# EAGLE library part ATMEGA328PB-*-? (library Microchip-ATMEL328P(B))
AVR® 8-bit MICROCONTROLLER ATmega328PB <https://www.microchip.com/wwwproducts/en/ATmega328PB> In Production
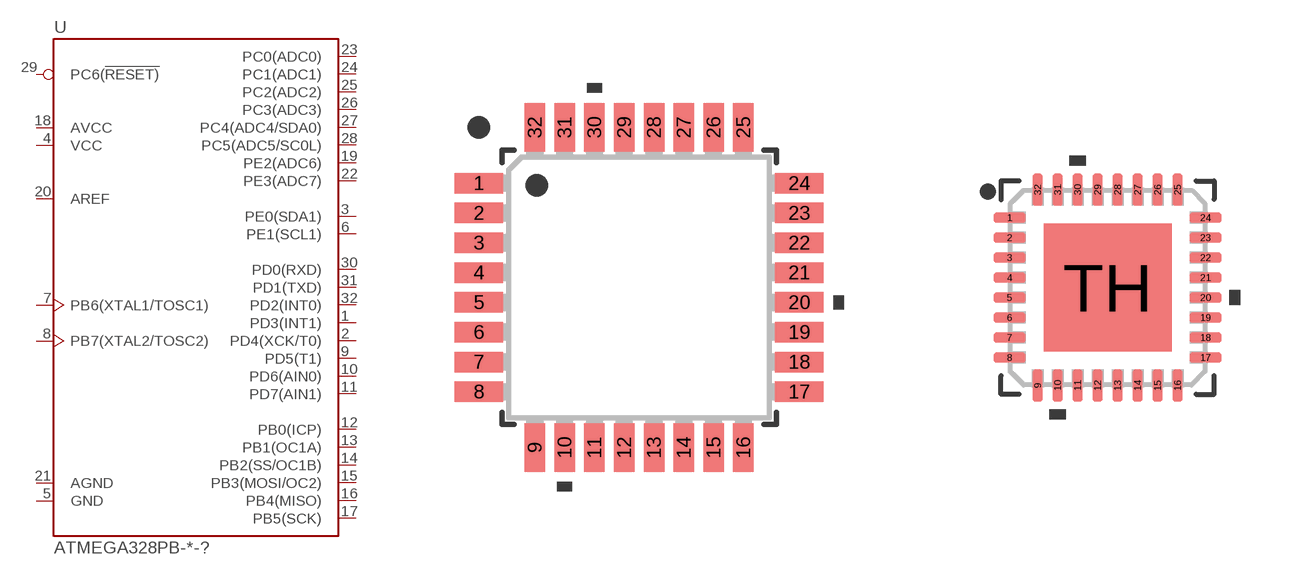
[diagram p1: symbol with the pads of TQFP32-08; footprints TQFP32-08, VQFN32-3.20_PAD]

Designator prefix U

## ATMEGA328PB-ABTVAO-PT (OP_TEMP: -55C to +105C; PACKAGE_MEDIA: TAPE/REEL; PACKAGE_TYPE: TQFP; VALUE: ATMEGA328PB-ABTVAO), ATMEGA328PB-AN-PT (OP_TEMP: -55C to +105C; PACKAGE_MEDIA: TRAY; PACKAGE_TYPE: TQFP; VALUE: ATMEGA328PB-AN), ATMEGA328PB-ANR-PT (OP_TEMP: -55C to +105C; PACKAGE_MEDIA: TAPE/REEL; PACKAGE_TYPE: TQFP; VALUE: ATMEGA328PB-ANR), ATMEGA328PB-AU-PT (OP_TEMP: -55C to +85C; PACKAGE_MEDIA: TRAY; PACKAGE_TYPE: TQFP; VALUE: ATMEGA328PB-AU), ATMEGA328PB-AUR-PT (OP_TEMP: -55C to +85C; PACKAGE_MEDIA: TAPE/REEL; PACKAGE_TYPE: TQFP; VALUE: ATMEGA328PB-AUR), ATMEGA328PB-AURVAO-PT (OP_TEMP: -55C to +85C; PACKAGE_MEDIA: TAPE/REEL; PACKAGE_TYPE: TQFP; VALUE: ATMEGA328PB-AURVAO), ATMEGA328PB-AUVAO-PT (OP_TEMP: -55C to +85C; PACKAGE_MEDIA: TRAY; PACKAGE_TYPE: TQFP; VALUE: ATMEGA328PB-AUVAO)  [TQFP32-08]
1  PD3(INT1)
2  PD4(XCK/T0)
3  PE0(SDA1)
4  VCC
5  GND
6  PE1(SCL1)
7  PB6(XTAL1/TOSC1)
8  PB7(XTAL2/TOSC2)
9  PD5(T1)
10  PD6(AIN0)
11  PD7(AIN1)
12  PB0(ICP)
13  PB1(OC1A)
14  PB2(SS/OC1B)
15  PB3(MOSI/OC2)
16  PB4(MISO)
17  PB5(SCK)
18  AVCC
19  PE2(ADC6)
20  AREF
21  AGND
22  PE3(ADC7)
23  PC0(ADC0)
24  PC1(ADC1)
25  PC2(ADC2)
26  PC3(ADC3)
27  PC4(ADC4/SDA0)
28  PC5(ADC5/SC0L)
29  PC6(!RESET)
30  PD0(RXD)
31  PD1(TXD)
32  PD2(INT0)

## ATMEGA328PB-MN-RXB (OP_TEMP: -55C to +105C; PACKAGE_MEDIA: TRAY; PACKAGE_TYPE: VQFN; VALUE: ATMEGA328PB-MN), ATMEGA328PB-MNR-RXB (OP_TEMP: -55C to +105C; PACKAGE_MEDIA: TAPE/REEL; PACKAGE_TYPE: VQFN; VALUE: ATMEGA328PB-MNR), ATMEGA328PB-MU-RXB (OP_TEMP: -55C to +85C; PACKAGE_MEDIA: TRAY; PACKAGE_TYPE: VQFN; VALUE: ATMEGA328PB-MU), ATMEGA328PB-MUR-RXB (OP_TEMP: -55C to +85C; PACKAGE_MEDIA: TAPE/REEL; PACKAGE_TYPE: VQFN; VALUE: ATMEGA328PB-MUR)  [VQFN32-3.20_PAD]
1  PD3(INT1)
2  PD4(XCK/T0)
3  PE0(SDA1)
4  VCC
5  GND
6  PE1(SCL1)
7  PB6(XTAL1/TOSC1)
8  PB7(XTAL2/TOSC2)
9  PD5(T1)
10  PD6(AIN0)
11  PD7(AIN1)
12  PB0(ICP)
13  PB1(OC1A)
14  PB2(SS/OC1B)
15  PB3(MOSI/OC2)
16  PB4(MISO)
17  PB5(SCK)
18  AVCC
19  PE2(ADC6)
20  AREF
21  AGND
22  PE3(ADC7)
23  PC0(ADC0)
24  PC1(ADC1)
25  PC2(ADC2)
26  PC3(ADC3)
27  PC4(ADC4/SDA0)
28  PC5(ADC5/SC0L)
29  PC6(!RESET)
30  PD0(RXD)
31  PD1(TXD)
32  PD2(INT0)
TH  GND

## ATMEGA328PB-MBTVAO-RTB (OP_TEMP: -55C to +85C; PACKAGE_MEDIA: TAPE/REEL; PACKAGE_TYPE: VQFN; VALUE: ATMEGA328PB-MBTVAO)  [VQFN32-3.70_PAD]
Pads as for VQFN32-3.20_PAD

## Footprint TQFP32-08 (pad centres in mm)
Thin Quad Flat Package (TQFP) 32 Leads - 0.80mm Pitch, 7x7mm
smd 1.3 x 0.55: 1 -4.3,2.8; 2 -4.3,2; 3 -4.3,1.2; 4 -4.3,0.4; 5 -4.3,-0.4; 6 -4.3,-1.2; 7 -4.3,-2; 8 -4.3,-2.8; 17 4.3,-2.8; 18 4.3,-2; 19 4.3,-1.2; 20 4.3,-0.4; 21 4.3,0.4; 22 4.3,1.2; 23 4.3,2; 24 4.3,2.8
smd 0.55 x 1.3: 9 -2.8,-4.3; 10 -2,-4.3; 11 -1.2,-4.3; 12 -0.4,-4.3; 13 0.4,-4.3; 14 1.2,-4.3; 15 2,-4.3; 16 2.8,-4.3; 25 2.8,4.3; 26 2,4.3; 27 1.2,4.3; 28 0.4,4.3; 29 -0.4,4.3; 30 -1.2,4.3; 31 -2,4.3; 32 -2.8,4.3

## Footprint VQFN32-3.20_PAD (pad centres in mm)
Very Thin Quad Flat no Lead Package (VQFN) 32 Leads - 0.50mm Pitch, 5x5mm, with 3.20x3.20mm PAD Microchip Global Package Code RXB
smd 0.8 x 0.25: 1 -2.45,1.75; 2 -2.45,1.25; 3 -2.45,0.75; 4 -2.45,0.25; 5 -2.45,-0.25; 6 -2.45,-0.75; 7 -2.45,-1.25; 8 -2.45,-1.75; 17 2.45,-1.75; 18 2.45,-1.25; 19 2.45,-0.75; 20 2.45,-0.25; 21 2.45,0.25; 22 2.45,0.75; 23 2.45,1.25; 24 2.45,1.75
smd 0.25 x 0.8: 9 -1.75,-2.45; 10 -1.25,-2.45; 11 -0.75,-2.45; 12 -0.25,-2.45; 13 0.25,-2.45; 14 0.75,-2.45; 15 1.25,-2.45; 16 1.75,-2.45; 25 1.75,2.45; 26 1.25,2.45; 27 0.75,2.45; 28 0.25,2.45; 29 -0.25,2.45; 30 -0.75,2.45; 31 -1.25,2.45; 32 -1.75,2.45
smd 3.2 x 3.2: TH 0,0

## Footprint VQFN32-3.70_PAD (pad centres in mm)
Very Thin Quad Flat no Lead Package (VQFN) 32 Leads - 0.50mm Pitch, 5x5mm, with 3.25x3.25mm PAD Microchip Global Package Code RTB
smd 0.8 x 0.25: 1 -2.45,1.75; 2 -2.45,1.25; 3 -2.45,0.75; 4 -2.45,0.25; 5 -2.45,-0.25; 6 -2.45,-0.75; 7 -2.45,-1.25; 8 -2.45,-1.75; 17 2.45,-1.75; 18 2.45,-1.25; 19 2.45,-0.75; 20 2.45,-0.25; 21 2.45,0.25; 22 2.45,0.75; 23 2.45,1.25; 24 2.45,1.75
smd 0.25 x 0.8: 9 -1.75,-2.45; 10 -1.25,-2.45; 11 -0.75,-2.45; 12 -0.25,-2.45; 13 0.25,-2.45; 14 0.75,-2.45; 15 1.25,-2.45; 16 1.75,-2.45; 25 1.75,2.45; 26 1.25,2.45; 27 0.75,2.45; 28 0.25,2.45; 29 -0.25,2.45; 30 -0.75,2.45; 31 -1.25,2.45; 32 -1.75,2.45
smd 3.7 x 3.7: TH 0,0